# Altium schematic symbol library XC9572XL-10VQG44C.SchLib: 1 symbol
Pins are listed as number, name and electrical type; pins without a type are passive.

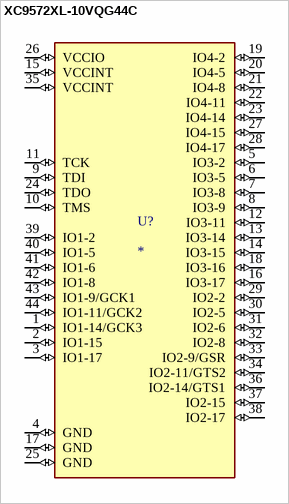
[diagram p0: symbol XC9572XL-10VQG44C]

## XC9572XL-10VQG44C
designator U?
IC CPLD 72MC 10NS 44VQFP; MP: XC9572XL-10VQG44C; MF: Xilinx Inc.; Value: *; Package: VQFP-44 Xilinx; Availability: Warning; SnapEDA_Link: https://www.snapeda.com/parts/XC9572XL-10VQG44C/Xilinx%20Inc./view-part/51416/?ref=snap; Price: None; Purchase-URL: https://pricing.snapeda.com/search/part/XC9572XL-10VQG44C/?ref=eda; Check_prices: https://www.snapeda.com/parts/XC9572XL-10VQG44C/Xilinx%20Inc./view-part/51416/?ref=eda
footprint VQFP-44
pins: 1 IO1-14/GCK3 (io), 2 IO1-15 (io), 3 IO1-17 (io), 4 GND (io), 5 IO3-2 (io), 6 IO3-5 (io), 7 IO3-8 (io), 8 IO3-9 (io), 9 TDI (io), 10 TMS (io), 11 TCK (io), 12 IO3-11 (io), 13 IO3-14 (io), 14 IO3-15 (io), 15 VCCINT (io), 16 IO3-17 (io), 17 GND (io), 18 IO3-16 (io), 19 IO4-2 (io), 20 IO4-5 (io), 21 IO4-8 (io), 22 IO4-11 (io), 23 IO4-14 (io), 24 TDO (io), 25 GND (io), 26 VCCIO (io), 27 IO4-15 (io), 28 IO4-17 (io), 29 IO2-2 (io), 30 IO2-5 (io), 31 IO2-6 (io), 32 IO2-8 (io), 33 IO2-9/GSR (io), 34 IO2-11/GTS2 (io), 35 VCCINT (io), 36 IO2-14/GTS1 (io), 37 IO2-15 (io), 38 IO2-17 (io), 39 IO1-2 (io), 40 IO1-5 (io), 41 IO1-6 (io), 42 IO1-8 (io), 43 IO1-9/GCK1 (io), 44 IO1-11/GCK2 (io)